# Altium schematic symbol library AD5320BRM.SchLib: 1 symbol
Pins are listed as number, name and electrical type; pins without a type are passive.

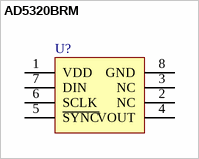
[diagram p0: symbol AD5320BRM]

## AD5320BRM
designator U?  (value not drawn)
pins: 1 VDD, 2 NC, 3 NC, 4 VOUT, 5 ~{SYNC}, 6 SCLK, 7 DIN, 8 GND